# Altium footprint library WE-SL5.PcbLib: 1 footprints
Each footprint in its own frame and in the unit in brackets; x right, y up, seen from the top. Pads: shape width x height; smd on the part's side, far side on the other; paste and mask are expansions set on the pad; w line width, h text height; cw(c..) or ccw(c..) is an arc to the next point about the centre after c.
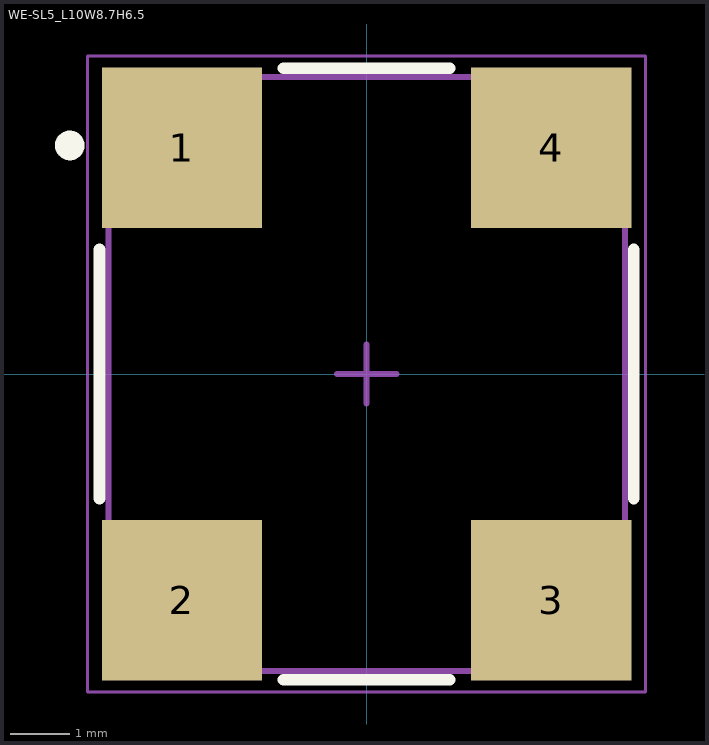
[diagram p0: the footprint, top view; thin cyan lines are the x and y axes]

## WE-SL5_L10W8.7H6.5 [mm] "SMD Inductor, Body 8.7x10mm"
height 6.5
pads (4):
  rect 2.7x2.7 smd: 1(-3.11,3.81) 2(-3.11,-3.81) 3(3.11,-3.81) 4(3.11,3.81)
Top Overlay:
  circle w0.25: c-5,3.85 r0.125
  lines w0.2: -4.5,-2.1 -4.5,2.1 ; -1.4,-5.15 1.4,-5.15 ; -1.4,5.15 1.4,5.15 ; 4.5,-2.1 4.5,2.1
Top Assembly:
  circle w0.1: c-3.35,4 r0.5
  lines w0.1: -4.35,-5 -4.35,5 4.35,5 4.35,-5 -4.35,-5
Top Designator:
  text ".Designator" at -3.647,-0.357 h1
Top 3D Body:
  circle w0.1: c-3.35,4 r0.5
  lines w0.1: -4.35,-5 -4.35,5 4.35,5 4.35,-5 -4.35,-5
Top Courtyard:
  lines w0.05: -4.7,-5.36 4.7,-5.36 4.7,5.36 -4.7,5.36 -4.7,-5.36
Top Component Center:
  lines w0.1: -0.5,0 0.5,0 ; 0,-0.5 0,0.5
3D body "744272xxx_roundCore.stp": height 6, standoff 0, extent -4.35,-5 4.35,5